# Altium footprint library MergenElektronik_Diodes_BridgeRectifiers.PcbLib: 1 footprints
Each footprint in its own frame and in the unit in brackets; x right, y up, seen from the top. Pads: shape width x height; smd on the part's side, far side on the other; paste and mask are expansions set on the pad; w line width, h text height; cw(c..) or ccw(c..) is an arc to the next point about the centre after c.
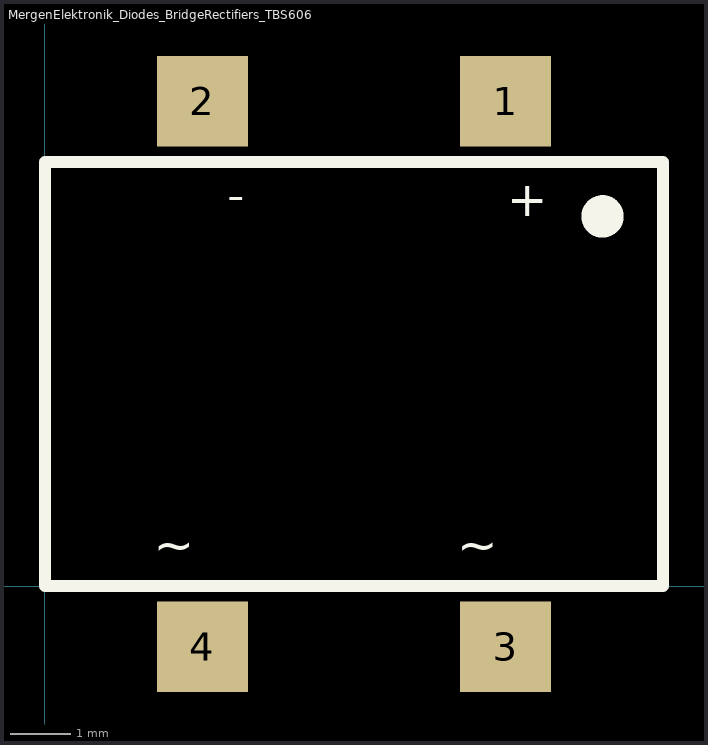
[diagram p0: the footprint, top view; thin cyan lines are the x and y axes]

## MergenElektronik_Diodes_BridgeRectifiers_TBS606 [mm] "TBS606"
pads (4):
  rect 1.5x1.5 smd: 1(7.6,8) 2(2.6,8) 3(7.6,-1) 4(2.6,-1)
Top Overlay:
  circle w0.5: c9.2,6.1 r0.1
  lines w0.2: 0,0 10.2,0 10.2,7 0,7 0,0
  text "~" at 1.8,0.2 h1
  text "~" at 6.8,0.2 h1
  text "-" at 3.3,6.8 h1
  text "+" at 8.3,6.8 h1
3D body: height 1.95, standoff 0, extent 0,-1.45 10.2,8.45